# Altium footprint library MB1312.PcbLib: 50 footprints (part 1 of 4)
Each footprint in its own frame and in the unit in brackets; x right, y up, seen from the top. Pads: shape width x height; smd on the part's side, far side on the other; paste and mask are expansions set on the pad; w line width, h text height; cw(c..) or ccw(c..) is an arc to the next point about the centre after c.
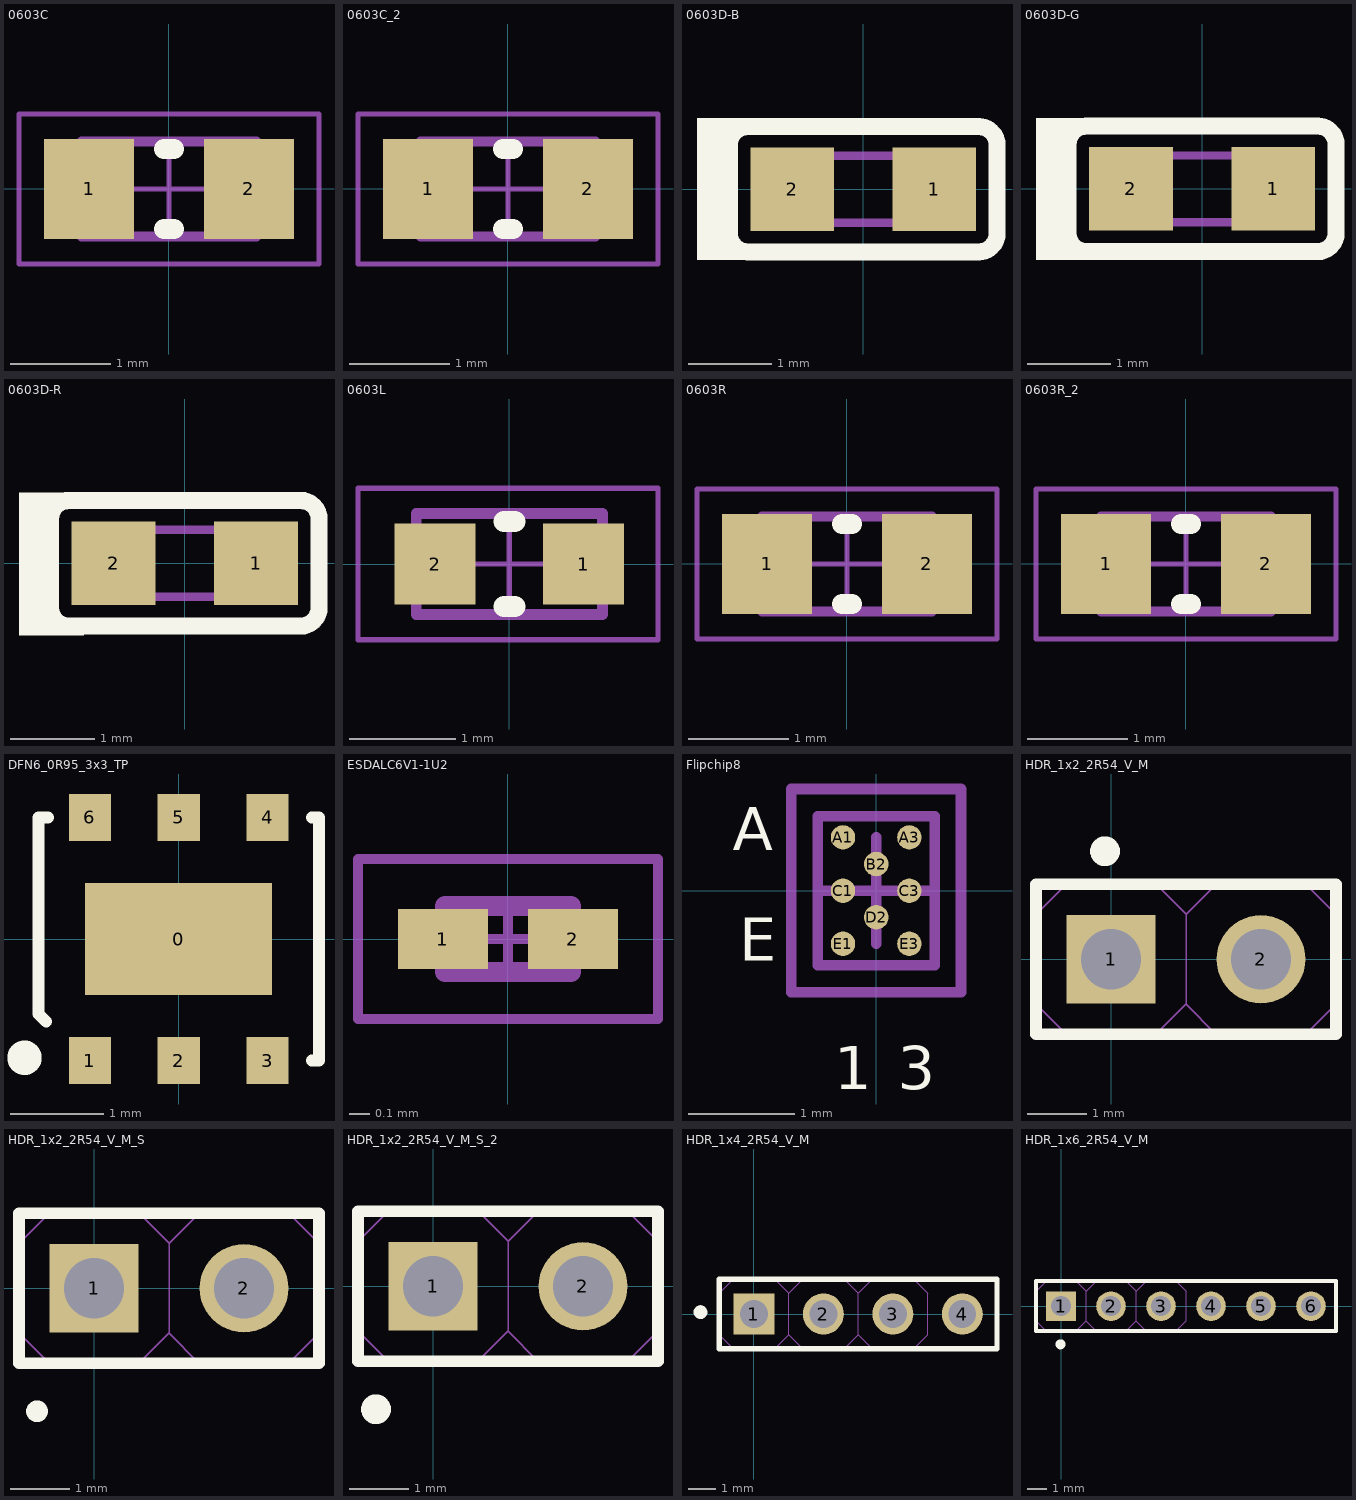
[diagram p0: the footprints below, top view; thin cyan lines are the x and y axes]

## 0603C [mm] "Chip Capacitor, Body 1.6x0.8mm, Height 1.0mm, IPC Medium Density"
height 1
pads (2):
  rect 0.9x1 smd: 1(-0.8,0) 2(0.8,0)
Top Overlay:
  lines w0.2: -0.05,-0.4 0.05,-0.4 ; -0.05,0.4 0.05,0.4
Mechanical 13:
  lines w0.1: -0.875,-0.475 0.875,-0.475 0.875,0.475 -0.875,0.475 -0.875,-0.475
Mechanical 15:
  lines w0.05: -0.475,0 0.475,0 ; 0,-0.475 0,0.475 ; -1.5,-0.75 1.5,-0.75 1.5,0.75 -1.5,0.75 -1.5,-0.75
3D body: height 1, standoff 0, extent 0.525,-0.475 0.875,0.475
3D body: height 1, standoff 0, extent -0.875,-0.475 -0.525,0.475
3D body: height 1, standoff 0, extent -0.525,-0.475 0.525,0.475

## 0603C_2 [mm]
pads (2):
  rect 0.9x1 smd: 1(-0.8,0) 2(0.8,0)
Top Overlay:
  lines w0.2: -0.05,-0.4 0.05,-0.4 ; -0.05,0.4 0.05,0.4
Mechanical 13:
  lines w0.1: -0.875,-0.475 0.875,-0.475 0.875,0.475 -0.875,0.475 -0.875,-0.475
Mechanical 15:
  lines w0.05: -0.475,0 0.475,0 ; 0,-0.475 0,0.475 ; -1.5,-0.75 1.5,-0.75 1.5,0.75 -1.5,0.75 -1.5,-0.75
3D body: height 1, standoff 0, extent 0.525,-0.475 0.875,0.475
3D body: height 1, standoff 0, extent -0.875,-0.475 -0.525,0.475
3D body: height 1, standoff 0, extent -0.525,-0.475 0.525,0.475

## 0603D-B [mm] "LED, SMT, Body 1.6 x 0.8 mm, 0.25mm Thickness"
height 0.25
pads (2):
  rect 1x1 smd paste+0 mask+0: 1(0.85,0) 2(-0.85,0)
Top Overlay:
  rectangle: -1.8,0.668 -1.15,0.853
  rectangle: -1.99,-0.849 -1.533,0.853
  rectangle: -1.8,-0.849 -1.216,-0.684
  lines w0.203: -1.602,-0.533 ccw(c-1.386,-0.533) -1.386,-0.749 1.386,-0.749 ccw(c1.386,-0.533) 1.602,-0.533 1.602,0.533 ccw(c1.386,0.533) 1.386,0.749 -1.386,0.749 ccw(c-1.386,0.533) -1.602,0.533 -1.602,-0.533
Mechanical 7:
  lines w0.1: -0.8,-0.4 -0.8,0.4 0.8,0.4 0.8,-0.4 -0.8,-0.4
3D body: height 0.1, standoff 0, extent -0.8,-0.4 0.8,0.4
3D body: height 0.2, standoff 0.15, extent -0.254,-0.254 0.254,0.254
3D body: height 0.25, standoff 0.1, extent -0.6,-0.4 0.6,0.4

## 0603D-G [mm] "LED, SMT, Body 1.6 x 0.8 mm, 0.25mm Thickness"
height 0.25
pads (2):
  rect 1x1 smd paste+0 mask+0: 1(0.85,0) 2(-0.85,0)
Top Overlay:
  rectangle: -1.794,-0.852 -1.21,-0.687
  rectangle: -1.985,-0.852 -1.528,0.85
  rectangle: -1.794,0.664 -1.144,0.85
  lines w0.203: -1.602,-0.533 ccw(c-1.386,-0.533) -1.386,-0.749 1.386,-0.749 ccw(c1.386,-0.533) 1.602,-0.533 1.602,0.533 ccw(c1.386,0.533) 1.386,0.749 -1.386,0.749 ccw(c-1.386,0.533) -1.602,0.533 -1.602,-0.533
Mechanical 7:
  lines w0.1: -0.8,-0.4 0.8,-0.4 0.8,0.4 -0.8,0.4 -0.8,-0.4
3D body: height 0.25, standoff 0.1, extent -0.6,-0.4 0.6,0.4
3D body: height 0.2, standoff 0.15, extent -0.254,-0.254 0.254,0.254
3D body: height 0.1, standoff 0, extent -0.8,-0.4 0.8,0.4

## 0603D-R [mm] "LED, SMT, Body 1.6 x 0.8 mm, 0.25mm Thickness"
height 0.25
pads (2):
  rect 1x1 smd paste+0 mask+0: 1(0.85,0) 2(-0.85,0)
Top Overlay:
  rectangle: -1.789,0.657 -1.139,0.843
  rectangle: -1.979,-0.859 -1.522,0.843
  rectangle: -1.789,-0.859 -1.205,-0.694
  lines w0.203: -1.602,-0.533 ccw(c-1.386,-0.533) -1.386,-0.749 1.386,-0.749 ccw(c1.386,-0.533) 1.602,-0.533 1.602,0.533 ccw(c1.386,0.533) 1.386,0.749 -1.386,0.749 ccw(c-1.386,0.533) -1.602,0.533 -1.602,-0.533
Mechanical 7:
  lines w0.1: -0.8,-0.4 -0.8,0.4 0.8,0.4 0.8,-0.4 -0.8,-0.4
3D body: height 0.1, standoff 0, extent -0.8,-0.4 0.8,0.4
3D body: height 0.2, standoff 0.15, extent -0.254,-0.254 0.254,0.254
3D body: height 0.25, standoff 0.1, extent -0.6,-0.4 0.6,0.4

## 0603L [mil] "Bead 0603L"
height 39.37
pads (2):
  rect 30x30 smd: 1(27.5,0) 2(-27.5,0)
Top Overlay:
  lines w7.87: -1.97,-15.74 1.97,-15.74 -1.97,-15.75 ; -1.97,15.75 1.97,15.75 -1.97,15.75
Mechanical 13:
  lines w3.94: -34.45,-18.7 -34.45,18.7 34.45,18.7 34.45,-18.7 -34.45,-18.7
Mechanical 15:
  lines w1.97: -18.7,0 18.7,0 ; 0,-18.7 0,18.7 ; -56,-28 55,-28 55,28 -56,28 -56,-28
3D body: height 23.62, standoff 0, extent -20.67,-18.7 20.67,18.7
3D body: height 23.62, standoff 0, extent -34.45,-18.7 -20.67,18.7
3D body: height 23.62, standoff 0, extent 20.67,-18.7 34.45,18.7

## 0603R [mm] "Chip Resistor, Body 1.6x0.8mm, IPC Medium Density"
height 0.6
pads (2):
  rect 0.9x1 smd: 1(-0.8,0) 2(0.8,0)
Top Overlay:
  lines w0.2: -0.05,-0.4 0.05,-0.4 ; -0.05,0.4 0.05,0.4
Mechanical 13:
  lines w0.1: -0.85,-0.475 0.85,-0.475 0.85,0.475 -0.85,0.475 -0.85,-0.475
Mechanical 15:
  lines w0.05: -0.475,0 0.475,0 ; 0,-0.475 0,0.475 ; -1.5,-0.75 1.5,-0.75 1.5,0.75 -1.5,0.75 -1.5,-0.75
3D body: height 0.6, standoff 0, extent -0.849,-0.474 -0.58,0.475
3D body: height 0.6, standoff 0, extent -0.58,-0.474 0.581,0.475
3D body: height 0.6, standoff 0, extent 0.581,-0.474 0.85,0.475

## 0603R_2 [mm]
pads (2):
  rect 0.9x1 smd: 1(-0.8,0) 2(0.8,0)
Top Overlay:
  lines w0.2: -0.05,-0.4 0.05,-0.4 ; -0.05,0.4 0.05,0.4
Mechanical 13:
  lines w0.1: -0.85,-0.475 -0.85,0.475 0.85,0.475 0.85,-0.475 -0.85,-0.475
Mechanical 15:
  lines w0.05: -0.475,0 0.475,0 ; 0,-0.475 0,0.475 ; -1.5,-0.75 -1.5,0.75 1.5,0.75 1.5,-0.75 -1.5,-0.75
3D body: height 0.6, standoff 0, extent 0.581,-0.474 0.85,0.475
3D body: height 0.6, standoff 0, extent -0.58,-0.474 0.581,0.475
3D body: height 0.6, standoff 0, extent -0.849,-0.474 -0.58,0.475

## DFN6_0R95_3x3_TP [mm] "500 mA low quiescent current and low noise voltage regulator"
height 1
pads (7):
  rect 2x1.2 smd: 0(0,0)
  rect 0.45x0.5 smd: 1(-0.95,-1.3) 2(0,-1.3) 3(0.95,-1.3) 4(0.95,1.3) 5(0,1.3) 6(-0.95,1.3)
Top Overlay:
  circle w0.25: c-1.649,-1.27 r0.059
  lines w0.127: -1.417,-0.883 -1.5,-0.8 -1.5,1.3 -1.397,1.3 ; 1.422,-1.3 1.5,-1.3 1.5,1.3 1.422,1.3
3D body: height 1, standoff 0.05, extent -1.5,-1.5 1.5,1.5

## ESDALC6V1-1U2 [mm]
pads (2):
  rect 0.45x0.3 smd: 1(-0.325,0) 2(0.325,0)
Mechanical 13:
  lines w0.1: -0.315,-0.165 0.315,-0.165 0.315,0.165 -0.315,0.165 -0.315,-0.165
Mechanical 15:
  lines w0.05: -0.165,0 0.165,0 ; 0,-0.165 0,0.165 ; -0.75,-0.4 0.75,-0.4 0.75,0.4 -0.75,0.4 -0.75,-0.4
3D body: height 0.3, standoff 0, extent 0.171,-0.164 0.315,0.165
3D body: height 0.3, standoff 0, extent -0.17,-0.164 0.171,0.165
3D body: height 0.3, standoff 0, extent -0.314,-0.164 -0.17,0.165

## Flipchip8 [mm]
pads (8):
  round 0.23 smd: A1(-0.312,0.5) A3(0.312,0.5) B2(0,0.25) C1(-0.312,0) C3(0.312,0) D2(0,-0.25) E1(-0.312,-0.5) E3(0.312,-0.5)
Top Overlay:
  text "A" at -1.346,0.381 h0.41
  text "E" at -1.288,-0.66 h0.41
  text "3" at 0.203,-1.864 h0.41
  text "1" at -0.396,-1.864 h0.41
Mechanical 13:
  lines w0.1: -0.55,-0.7 -0.55,0.7 0.55,0.7 0.55,-0.7 -0.55,-0.7
Mechanical 15:
  lines w0.1: -0.5,0 0.5,0 ; 0,-0.5 0,0.5 ; -0.798,-0.955 -0.798,0.955 0.797,0.955 0.797,-0.955 -0.798,-0.955
3D body: height 0.55, standoff 0.2, extent -0.55,-0.7 0.55,0.7

## HDR_1x2_2R54_V_M [mm] "Male Header, Pitch 2.54mm, 4x1 Position, Mated Height 6mm, Tail Length 3mm"
height 6
pads (2):
  rect 1.5x1.5 hole 1.02: 1(0,0)
  round 1.5 hole 1.02: 2(2.54,0)
Top Overlay:
  circle w0.25: c-0.102,1.829 r0.127
  lines w0.2: -1.27,-1.27 -1.27,1.27 3.81,1.27 3.81,-1.27 -1.27,-1.27
Mechanical 13:
  lines w0.025: 3.81,-0.762 3.302,-1.27 ; 3.81,0.762 3.302,1.27 1.778,1.27 1.27,0.762 ; -1.27,-0.762 -1.27,0.762 ; -1.27,-0.762 -1.27,0.762 ; -1.27,-0.762 -0.762,-1.27 ; -1.27,0.762 -0.762,1.27 0.762,1.27 1.27,0.762 ; -0.762,-1.27 0.762,-1.27 ; -0.762,-1.27 0.762,-1.27 ; 0.762,-1.27 1.27,-0.762 ; 1.27,-0.762 1.27,0.762 ; 1.27,-0.762 1.27,0.762 ; 1.27,-0.762 1.27,0.762 ; 1.27,-0.762 1.27,0.762 ; 1.27,-0.762 1.778,-1.27 ; 1.778,-1.27 3.302,-1.27 ; 1.778,-1.27 3.302,-1.27
3D body: height 2.54, standoff 0, extent -1.27,-1.27 1.27,1.27
3D body: height 9, standoff -10, extent -0.35,-0.349 0.347,0.349
3D body: height 2.54, standoff 0, extent 1.27,-1.27 3.81,1.27
3D body: height 9, standoff -10, extent 2.19,-0.349 2.887,0.349

## HDR_1x2_2R54_V_M_S [mm] "Male Header, Pitch 2.54mm, 4x1 Position, Mated Height 6mm, Tail Length 3mm"
height 6
pads (2):
  rect 1.5x1.5 hole 1.02: 1(0,0)
  round 1.5 hole 1.02: 2(2.54,0)
Top Overlay:
  circle w0.25: c-0.965,-2.083 r0.059
  lines w0.2: -1.27,-1.27 -1.27,1.27 3.81,1.27 3.81,-1.27 -1.27,-1.27
Mechanical 13:
  lines w0.025: 3.81,-0.762 3.302,-1.27 ; 3.81,0.762 3.302,1.27 1.778,1.27 1.27,0.762 ; -1.27,-0.762 -1.27,0.762 ; -1.27,-0.762 -1.27,0.762 ; -1.27,-0.762 -0.762,-1.27 ; -1.27,0.762 -0.762,1.27 0.762,1.27 1.27,0.762 ; -0.762,-1.27 0.762,-1.27 ; -0.762,-1.27 0.762,-1.27 ; 0.762,-1.27 1.27,-0.762 ; 1.27,-0.762 1.27,0.762 ; 1.27,-0.762 1.27,0.762 ; 1.27,-0.762 1.27,0.762 ; 1.27,-0.762 1.27,0.762 ; 1.27,-0.762 1.778,-1.27 ; 1.778,-1.27 3.302,-1.27 ; 1.778,-1.27 3.302,-1.27
3D body: height 2.54, standoff 0, extent -1.27,-1.27 1.27,1.27
3D body: height 9, standoff -3, extent -0.35,-0.349 0.347,0.349
3D body: height 2.54, standoff 0, extent 1.27,-1.27 3.81,1.27
3D body: height 9, standoff -3, extent 2.19,-0.349 2.887,0.349

## HDR_1x2_2R54_V_M_S_2 [mm]
pads (2):
  rect 1.5x1.5 hole 1.02: 1(0,0)
  round 1.5 hole 1.02: 2(2.54,0)
Top Overlay:
  circle w0.25: c-0.965,-2.083 r0.127
  lines w0.2: -1.27,-1.27 -1.27,1.27 3.81,1.27 3.81,-1.27 -1.27,-1.27
Mechanical 13:
  lines w0.025: 3.81,-0.762 3.302,-1.27 ; 3.81,0.762 3.302,1.27 1.778,1.27 1.27,0.762 ; -1.27,-0.762 -1.27,0.762 ; -1.27,-0.762 -1.27,0.762 ; -1.27,-0.762 -0.762,-1.27 ; -1.27,0.762 -0.762,1.27 0.762,1.27 1.27,0.762 ; -0.762,-1.27 0.762,-1.27 ; -0.762,-1.27 0.762,-1.27 ; 0.762,-1.27 1.27,-0.762 ; 1.27,-0.762 1.27,0.762 ; 1.27,-0.762 1.27,0.762 ; 1.27,-0.762 1.27,0.762 ; 1.27,-0.762 1.27,0.762 ; 1.27,-0.762 1.778,-1.27 ; 1.778,-1.27 3.302,-1.27 ; 1.778,-1.27 3.302,-1.27
3D body: height 2.54, standoff 0, extent -1.27,-1.27 1.27,1.27
3D body: height 9, standoff -3, extent -0.35,-0.349 0.347,0.349
3D body: height 2.54, standoff 0, extent 1.27,-1.27 3.81,1.27
3D body: height 9, standoff -3, extent 2.19,-0.349 2.887,0.349

## HDR_1x4_2R54_V_M [mm] "Male Header, Pitch 2.54mm, 4x1 Position, Mated Height 6mm, Tail Length 3mm"
height 6
pads (4):
  rect 1.5x1.5 hole 1.02: 1(0,0)
  round 1.5 hole 1.02: 2(2.54,0) 3(5.08,0) 4(7.62,0)
Top Overlay:
  circle w0.25: c-1.956,0.068 r0.127
  lines w0.2: 8.865,1.27 -1.27,1.27 -1.27,-1.27 8.89,-1.27 8.89,1.27
Mechanical 13:
  lines w0.025: -1.27,-0.762 -1.27,0.762 ; -1.27,-0.762 -1.27,0.762 ; -1.27,-0.762 -0.762,-1.27 ; -1.27,0.762 -0.762,1.27 0.762,1.27 1.27,0.762 ; -0.762,-1.27 0.762,-1.27 ; -0.762,-1.27 0.762,-1.27 ; 0.762,-1.27 1.27,-0.762 ; 1.27,-0.762 1.27,0.762 ; 1.27,-0.762 1.27,0.762 ; 1.27,-0.762 1.27,0.762 ; 1.27,-0.762 1.27,0.762 ; 1.27,-0.762 1.778,-1.27 ; 1.27,0.762 1.778,1.27 3.302,1.27 3.81,0.762 ; 1.778,-1.27 3.302,-1.27 ; 1.778,-1.27 3.302,-1.27 ; 3.302,-1.27 3.81,-0.762 ; 3.81,-0.762 3.81,0.762 ; 3.81,-0.762 3.81,0.762 ; 3.81,-0.762 3.81,0.762 ; 3.81,-0.762 3.81,0.762 ; 3.81,-0.762 4.318,-1.27 ; 3.81,0.762 4.318,1.27 5.842,1.27 6.35,0.762 ; 4.318,-1.27 5.842,-1.27 ; 4.318,-1.27 5.842,-1.27 ; 5.842,-1.27 6.35,-0.762 ; 6.35,-0.762 6.35,0.762 ; 6.35,-0.762 6.35,0.762
3D body: height 2.54, standoff 0, extent -1.27,-1.27 1.27,1.27
3D body: height 9, standoff -2.54, extent -0.35,-0.349 0.347,0.349
3D body: height 2.54, standoff 0, extent 1.27,-1.27 3.81,1.27
3D body: height 9, standoff -2.54, extent 2.19,-0.349 2.887,0.349
3D body: height 2.54, standoff 0, extent 3.81,-1.27 6.35,1.27
3D body: height 9, standoff -2.54, extent 4.73,-0.349 5.427,0.349
3D body: height 9, standoff -2.54, extent 7.27,-0.349 7.967,0.349
3D body: height 2.54, standoff 0, extent 6.35,-1.27 8.89,1.27

## HDR_1x6_2R54_V_M [mm] "Male Header, Pitch 2.54mm, 6x1 Position, Mated Height 6mm, Tail Length 3mm"
height 6
pads (6):
  rect 1.5x1.5 hole 1.02: 1(0,0)
  round 1.5 hole 1.02: 2(2.54,0) 3(5.08,0) 4(7.62,0) 5(10.16,0) 6(12.7,0)
Top Overlay:
  circle w0.25: c-0.025,-1.938 r0.127
  lines w0.2: 13.945,-1.27 -1.27,-1.27 -1.27,1.27 13.945,1.27 ; 13.97,-1.27 13.97,1.27
Mechanical 13:
  lines w0.025: -1.27,-0.762 -1.27,0.762 ; -1.27,-0.762 -1.27,0.762 ; -1.27,-0.762 -0.762,-1.27 ; -1.27,0.762 -0.762,1.27 0.762,1.27 1.27,0.762 ; -0.762,-1.27 0.762,-1.27 ; -0.762,-1.27 0.762,-1.27 ; 0.762,-1.27 1.27,-0.762 ; 1.27,-0.762 1.27,0.762 ; 1.27,-0.762 1.27,0.762 ; 1.27,-0.762 1.27,0.762 ; 1.27,-0.762 1.27,0.762 ; 1.27,-0.762 1.778,-1.27 ; 1.27,0.762 1.778,1.27 3.302,1.27 3.81,0.762 ; 1.778,-1.27 3.302,-1.27 ; 1.778,-1.27 3.302,-1.27 ; 3.302,-1.27 3.81,-0.762 ; 3.81,-0.762 3.81,0.762 ; 3.81,-0.762 3.81,0.762 ; 3.81,-0.762 3.81,0.762 ; 3.81,-0.762 3.81,0.762 ; 3.81,-0.762 4.318,-1.27 ; 3.81,0.762 4.318,1.27 5.842,1.27 6.35,0.762 ; 4.318,-1.27 5.842,-1.27 ; 4.318,-1.27 5.842,-1.27 ; 5.842,-1.27 6.35,-0.762 ; 6.35,-0.762 6.35,0.762 ; 6.35,-0.762 6.35,0.762
3D body: height 2.54, standoff 0, extent -1.27,-1.27 1.27,1.27
3D body: height 9, standoff -2.54, extent -0.35,-0.349 0.347,0.349
3D body: height 2.54, standoff 0, extent 1.27,-1.27 3.81,1.27
3D body: height 9, standoff -2.54, extent 2.19,-0.349 2.887,0.349
3D body: height 2.54, standoff 0, extent 3.81,-1.27 6.35,1.27
3D body: height 9, standoff -2.54, extent 4.73,-0.349 5.427,0.349
3D body: height 9, standoff -2.54, extent 7.27,-0.349 7.967,0.349
3D body: height 2.54, standoff 0, extent 6.35,-1.27 8.89,1.27
3D body: height 9, standoff -2.54, extent 9.81,-0.349 10.507,0.349
3D body: height 2.54, standoff 0, extent 8.89,-1.27 11.43,1.27
3D body: height 9, standoff -2.54, extent 12.35,-0.349 13.047,0.349
3D body: height 2.54, standoff 0, extent 11.43,-1.27 13.97,1.27